# EAGLE library part 139 (library allegro_magnetichall)
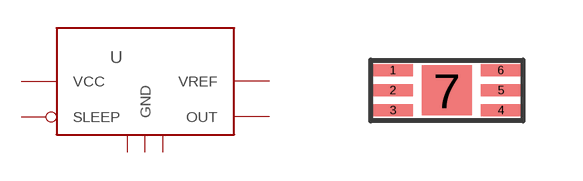
[diagram p0: symbol with the pads of EH6; footprint EH6]

Designator prefix -

## 1395  [EH6]
1  VCC  pwr
2  OUT  pwr
3  GND1  pwr
4  GND2  pwr
5  SLEEP
6  VREF  pwr
7  GND  pwr

## Footprint EH6 (pad centres in mm)
smd 1 x 0.3: 1 -1.35,0.5; 2 -1.35,0; 3 -1.35,-0.5; 4 1.35,-0.5; 5 1.35,0; 6 1.35,0.5
smd 1.25 x 1.25: 7 0,0